# Altium schematic symbol library jlcpcb_2025_04_inductors_basic.schlib: 2 symbols
Pins are listed as number, name and electrical type; pins without a type are passive.

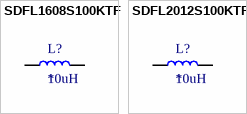
[diagram p0: symbols SDFL1608S100KTF to SDFL2012S100KTF]

## SDFL1608S100KTF
designator L?  Inductance: 10uH
Inductor, 10uH, ±10%, 1.85Ω, 3mA, SMD 0603; Manufacturer: Sunlord; Manufacturer Part Number: SDFL1608S100KTF; Self-Resonant Frequency: 2MHz; Q Factor: 30@2MHz; Package Size: 0603; JLCPCB Basic Part: Yes; JLCPCB Part Number: C1035; Supplier 1: LCSC; Category: Inductors; Supplier Part Number 1: C1035; Tolerance: ±10%; Rated Current: 3mA; DC Resistance: 1.85Ω; RoHS: Yes; ComponentLink1Description: Datasheet; ComponentLink1URL: https://wmsc.lcsc.com/wmsc/upload/file/pdf/v2/lcsc/2310301641_Sunlord-SDFL1608S100KTF_C1035.pdf; ComponentLink2Description: JLCPCB Part URL; ComponentLink2URL: https://jlcpcb.com/partdetail/C1035; ComponentLink3Description: LCSC Part URL; ComponentLink3URL: https://lcsc.com/product-detail/Inductors-SMD_Sunlord-Sunlord-SDFL1608S100KTF_C1035.html
footprint IND-0603 (0603 (1608M) Inductor)
pins: 1, 2

## SDFL2012S100KTF
designator L?  Inductance: 10uH
Inductor, 10uH, ±10%, 1.15Ω, 15mA, SMD 0805; Manufacturer: Sunlord; Manufacturer Part Number: SDFL2012S100KTF; Package Size: 0805; JLCPCB Basic Part: Yes; JLCPCB Part Number: C1046; Supplier 1: LCSC; Category: Inductors; Supplier Part Number 1: C1046; Tolerance: ±10%; Rated Current: 15mA; DC Resistance: 1.15Ω; RoHS: Yes; ComponentLink1Description: Datasheet; ComponentLink1URL: https://wmsc.lcsc.com/wmsc/upload/file/pdf/v2/lcsc/2310301641_Sunlord-SDFL2012S100KTF_C1046.pdf; ComponentLink2Description: JLCPCB Part URL; ComponentLink2URL: https://jlcpcb.com/partdetail/C1046; ComponentLink3Description: LCSC Part URL; ComponentLink3URL: https://lcsc.com/product-detail/Inductors-SMD_Sunlord-Sunlord-SDFL2012S100KTF_C1046.html
footprint IND-0805 (0805 (2012M) Inductor)
pins: 1, 2